# Altium footprint library ADN8810.PcbLib: 3 footprints
Each footprint in its own frame and in the unit in brackets; x right, y up, seen from the top. Pads: shape width x height; smd on the part's side, far side on the other; paste and mask are expansions set on the pad; w line width, h text height; cw(c..) or ccw(c..) is an arc to the next point about the centre after c.
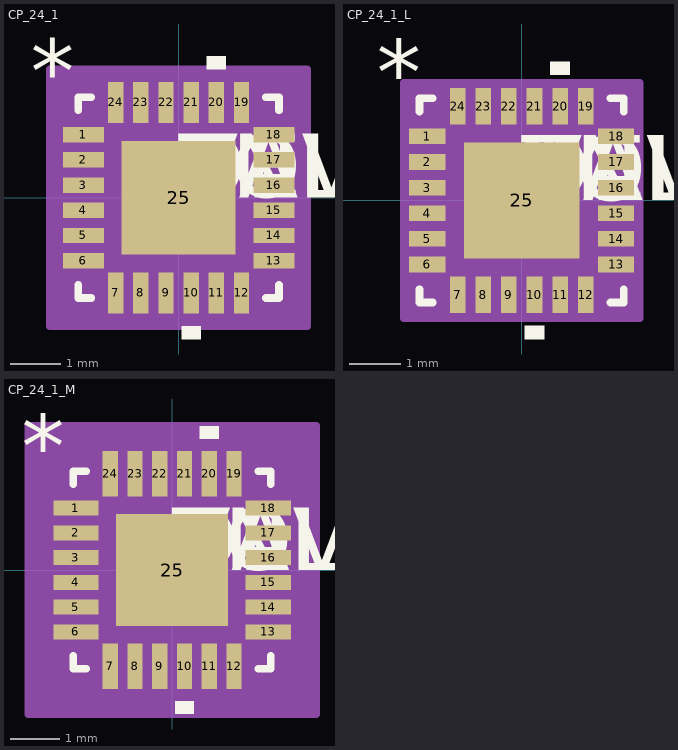
[diagram p0: the footprints below, top view; thin cyan lines are the x and y axes]

## CP_24_1 [mil]
pads (25):
  rect 32x12 smd mask+5: 1(-74.5,49.21) 2(-74.5,29.53) 3(-74.5,9.84) 4(-74.5,-9.84) 5(-74.5,-29.53) 6(-74.5,-49.21) 13(74.5,-49.21) 14(74.5,-29.53) 15(74.5,-9.84) 16(74.5,9.84) 17(74.5,29.53) 18(74.5,49.21)
  rect 12x32 smd mask+5: 7(-49.21,-74.5) 8(-29.53,-74.5) 9(-9.84,-74.5) 10(9.84,-74.5) 11(29.53,-74.5) 12(49.21,-74.5) 19(49.21,74.5) 20(29.53,74.5) 21(9.84,74.5) 22(-9.84,74.5) 23(-29.53,74.5) 24(-49.21,74.5)
  rect 89x89 smd mask-44: 25(0,0)
Top Overlay:
  region: 17.34,-100.5 2.34,-100.5 2.34,-110.5 17.34,-110.5
  region: 37.03,100.5 22.03,100.5 22.03,110.5 37.03,110.5
  lines w6: -78.5,-68.31 -78.5,-78.5 -68.31,-78.5 ; -78.5,68.31 -78.5,78.5 -68.31,78.5 ; 68.31,-78.5 78.5,-78.5 78.5,-68.31 ; 68.31,78.5 78.5,78.5 78.5,68.31
  text "*" at -115.5,74.06 h50
  text "PN" at 0,0 h50
  text "DEV" at 0,0 h50
  text "VAL" at 0,0 h50
  text "TOL" at 0,0 h50
Mechanical 13:
  text "*" at -115.5,74.06 h50
  text "RefDes2" at 0,0 h50
Mechanical 15:
  region: 100.5,-100.5 -100.5,-100.5 -100.5,100.5 100.5,100.5
  lines w6: -100.5,-100.5 -100.5,100.5 100.5,100.5 100.5,-100.5 -100.5,-100.5
3D body "CP_24_1.stp": height 38.1, standoff 0, extent -80.5,-80.5 80.5,80.5

## CP_24_1_L [mil]
pads (25):
  rect 28x12 smd mask+5: 1(-72.5,49.21) 2(-72.5,29.53) 3(-72.5,9.84) 4(-72.5,-9.84) 5(-72.5,-29.53) 6(-72.5,-49.21) 13(72.5,-49.21) 14(72.5,-29.53) 15(72.5,-9.84) 16(72.5,9.84) 17(72.5,29.53) 18(72.5,49.21)
  rect 12x28 smd mask+5: 7(-49.21,-72.5) 8(-29.53,-72.5) 9(-9.84,-72.5) 10(9.84,-72.5) 11(29.53,-72.5) 12(49.21,-72.5) 19(49.21,72.5) 20(29.53,72.5) 21(9.84,72.5) 22(-9.84,72.5) 23(-29.53,72.5) 24(-49.21,72.5)
  rect 89x89 smd mask-44: 25(0,0)
Top Overlay:
  region: 17.34,-96.5 2.34,-96.5 2.34,-106.5 17.34,-106.5
  region: 37.03,96.5 22.03,96.5 22.03,106.5 37.03,106.5
  lines w6: -78.5,-68.31 -78.5,-78.5 -68.31,-78.5 ; -78.5,68.31 -78.5,78.5 -68.31,78.5 ; 68.31,-78.5 78.5,-78.5 78.5,-68.31 ; 68.31,78.5 78.5,78.5 78.5,68.31
  text "*" at -111.5,74.06 h50
  text "PN" at 0,0 h50
  text "DEV" at 0,0 h50
  text "VAL" at 0,0 h50
  text "TOL" at 0,0 h50
Mechanical 13:
  text "*" at -111.5,74.06 h50
  text "RefDes2" at 0,0 h50
Mechanical 15:
  region: 90.5,-90.5 -90.5,-90.5 -90.5,90.5 90.5,90.5
  lines w6: -90.5,-90.5 -90.5,90.5 90.5,90.5 90.5,-90.5 -90.5,-90.5
3D body "CP_24_1_L.stp": height 38.1, standoff 0, extent -80.5,-80.5 80.5,80.5

## CP_24_1_M [mil]
pads (25):
  rect 36x12 smd mask+5: 1(-76.5,49.21) 2(-76.5,29.53) 3(-76.5,9.84) 4(-76.5,-9.84) 5(-76.5,-29.53) 6(-76.5,-49.21) 13(76.5,-49.21) 14(76.5,-29.53) 15(76.5,-9.84) 16(76.5,9.84) 17(76.5,29.53) 18(76.5,49.21)
  rect 12x36 smd mask+5: 7(-49.21,-76.5) 8(-29.53,-76.5) 9(-9.84,-76.5) 10(9.84,-76.5) 11(29.53,-76.5) 12(49.21,-76.5) 19(49.21,76.5) 20(29.53,76.5) 21(9.84,76.5) 22(-9.84,76.5) 23(-29.53,76.5) 24(-49.21,76.5)
  rect 89x89 smd mask-44: 25(0,0)
Top Overlay:
  region: 17.34,-104.5 2.34,-104.5 2.34,-114.5 17.34,-114.5
  region: 37.03,104.5 22.03,104.5 22.03,114.5 37.03,114.5
  lines w6: -78.5,-68.31 -78.5,-78.5 -68.31,-78.5 ; -78.5,68.31 -78.5,78.5 -68.31,78.5 ; 68.31,-78.5 78.5,-78.5 78.5,-68.31 ; 68.31,78.5 78.5,78.5 78.5,68.31
  text "*" at -119.5,74.06 h50
  text "PN" at 0,0 h50
  text "DEV" at 0,0 h50
  text "VAL" at 0,0 h50
  text "TOL" at 0,0 h50
Mechanical 13:
  text "*" at -119.5,74.06 h50
  text "RefDes2" at 0,0 h50
Mechanical 15:
  region: 114.5,-114.5 -114.5,-114.5 -114.5,114.5 114.5,114.5
  lines w6: -114.5,-114.5 -114.5,114.5 114.5,114.5 114.5,-114.5 -114.5,-114.5
3D body "CP_24_1_M.stp": height 38.1, standoff 0, extent -80.5,-80.5 80.5,80.5